# EAGLE library part X9C10X (library drag-custom)
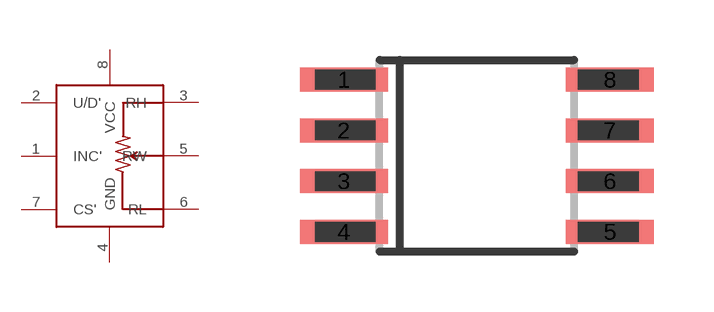
[diagram p18: symbol with the pads of X9C10X; footprint X9C10X]

Designator prefix -

## X9C10X  [X9C10X]
1  INC'
2  U/D'
3  RH
4  GND
5  RW
6  RL
7  CS'
8  VCC

## Footprint X9C10X (pad centres in mm)
smd 2.2 x 0.6: 1 -3.33,1.905; 2 -3.33,0.635; 3 -3.33,-0.635; 4 -3.33,-1.905; 5 3.33,-1.905; 6 3.33,-0.635; 7 3.33,0.635; 8 3.33,1.905